# Altium schematic symbol library SGL0622Z.SchLib: 1 symbol
Pins are listed as number, name and electrical type; pins without a type are passive.

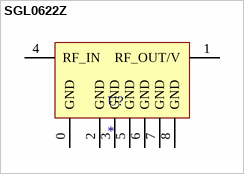
[diagram p0: symbol SGL0622Z]

## SGL0622Z
designator U?
pins: 0 GND (power), 1 RF_OUT/V (power), 2 GND (power), 3 GND (power), 4 RF_IN (power), 5 GND (power), 6 GND (power), 7 GND (power), 8 GND (power)